# Altium footprint library Trinamics Drivers.PcbLib: 5 footprints
Each footprint in its own frame and in the unit in brackets; x right, y up, seen from the top. Pads: shape width x height; smd on the part's side, far side on the other; paste and mask are expansions set on the pad; w line width, h text height; cw(c..) or ccw(c..) is an arc to the next point about the centre after c.
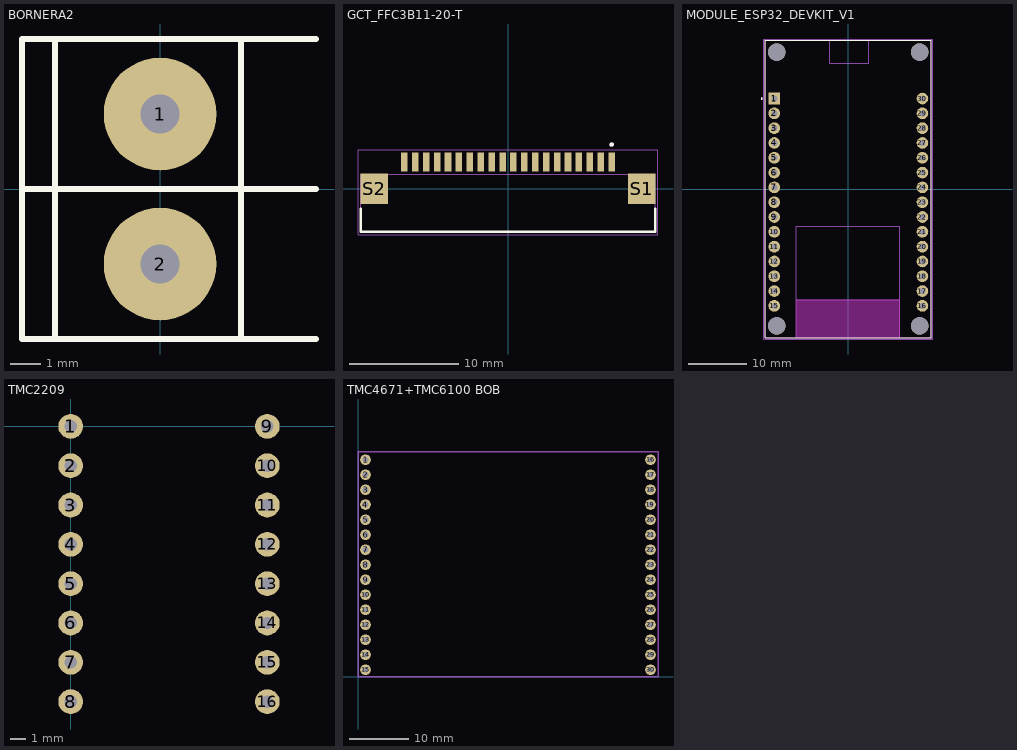
[diagram p0: the footprints below, top view; thin cyan lines are the x and y axes]

## BORNERA2 [mm] "Bornera con Tornillos 5mm separación"
pads (2):
  round 3.75 hole 1.3: 1(0,2.5) 2(0,-2.5)
Top Overlay:
  lines w0.2: -4.6,0 5.2,0 ; -3.5,-5 -3.5,5 ; 2.7,-5 2.7,5 ; 5.2,-5 -4.6,-5 -4.6,5 5.2,5
3D body "BORNERA_2.step": height 10, standoff -2.28, extent -3.763,-4.892 3.937,5.607

## GCT_FFC3B11-20-T [mm]
height 2.5
pads (22):
  rect 0.6x1.7 smd: 1(9.5,2.45) 2(8.5,2.45) 3(7.5,2.45) 4(6.5,2.45) 5(5.5,2.45) 6(4.5,2.45) 7(3.5,2.45) 8(2.5,2.45) 9(1.5,2.45) 10(0.5,2.45) 11(-0.5,2.45) 12(-1.5,2.45) 13(-2.5,2.45) 14(-3.5,2.45) 15(-4.5,2.45) 16(-5.5,2.45) 17(-6.5,2.45) 18(-7.5,2.45) 19(-8.5,2.45) 20(-9.5,2.45)
  rect 2.5x2.8 smd: S1(12.25,0) S2(-12.25,0)
Top Overlay:
  circle w0.2: c9.5,4.05 r0.1
  lines w0.2: -13.5,-1.8 -13.5,-3.95 13.5,-3.95 13.5,-1.8
Mechanical 13:
  circle w0.2: c9.5,4.05 r0.1
  lines w0.1: -13.5,-3.95 -13.5,1.35 13.5,1.35 13.5,-3.95 -13.5,-3.95
Mechanical 15:
  lines w0.05: -13.75,-4.2 13.75,-4.2 13.75,3.55 -13.75,3.55 -13.75,-4.2
3D body "step_temp.STEP": height 2.5, standoff 0, extent -13.5,-3.95 13.5,2.8

## MODULE_ESP32_DEVKIT_V1 [mm]
height 6.8
pads (34):
  rect 2x2 / inner round 2 / far side rect 2x2 hole 1.02: 1(-12.7,15.515)
  round 2 hole 1.02: 2(-12.7,12.975) 3(-12.7,10.435) 4(-12.7,7.895) 5(-12.7,5.355) 6(-12.7,2.815) 7(-12.7,0.275) 8(-12.7,-2.265) 9(-12.7,-4.805) 10(-12.7,-7.345) 11(-12.7,-9.885) 12(-12.7,-12.425) 13(-12.7,-14.965) 14(-12.7,-17.505) 15(-12.7,-20.045) 16(12.7,-20.045) 17(12.7,-17.505) 18(12.7,-14.965) 19(12.7,-12.425) 20(12.7,-9.885) 21(12.7,-7.345) 22(12.7,-4.805) 23(12.7,-2.265) 24(12.7,0.275) 25(12.7,2.815) 26(12.7,5.355) 27(12.7,7.895) 28(12.7,10.435) 29(12.7,12.975) 30(12.7,15.515)
  round 3 hole 3 unplated: ""(-12.28,-23.475) ""(-12.28,23.475) ""(12.23,-23.475) ""(12.23,23.475)
Top Overlay:
  circle w0.2: c-14.85,15.515 r0.1
  lines w0.127: -14.28,-25.475 -8.91,-25.475 8.78,-25.475 14.23,-25.475 ; -14.28,-25.475 -14.28,25.475 ; -14.28,-25.475 -14.28,25.475 ; -14.28,-25.475 14.23,-25.475 ; -14.28,25.475 -3.211,25.475 3.5,25.475 14.23,25.475 ; -14.28,25.475 14.23,25.475 ; 14.23,-25.475 14.23,25.475 ; 14.23,-25.475 14.23,25.475
Keep-Out Layer:
  region: 8.78,-25.475 -8.91,-25.475 -8.91,-18.985 8.78,-18.985
  region: 8.78,-25.475 -8.91,-25.475 -8.91,-18.985 8.78,-18.985
Mechanical 13:
  circle w0.2: c-14.85,15.515 r0.1
  lines w0.127: -8.91,-25.475 -8.91,-18.985 ; -8.91,-25.475 8.78,-25.475 ; -8.91,-25.475 -14.28,-25.475 -14.28,25.475 -3.211,25.475 ; -8.91,-18.985 8.78,-18.985 ; -8.91,-18.985 -8.91,-6.355 8.78,-6.355 8.78,-18.985 ; -3.211,25.475 -3.211,21.585 3.5,21.585 3.5,25.475 ; -3.211,25.475 3.5,25.475 ; 3.5,25.475 14.23,25.475 14.23,-25.475 8.78,-25.475 ; 8.78,-25.475 8.78,-18.985
Mechanical 15:
  lines w0.05: -14.53,-25.725 14.48,-25.725 14.48,25.725 -14.53,25.725 -14.53,-25.725
3D body "step_temp.STEP": height 7.05, standoff -6, extent -14.1,-25.9 14.1,26.55

## TMC2209 [mm]
pads (16):
  round 1.6 hole 0.8: 1(0,0) 2(0,-2.54) 3(0,-5.08) 4(0,-7.62) 5(0,-10.16) 6(0,-12.7) 7(0,-15.24) 8(0,-17.78) 9(12.7,0) 10(12.7,-2.54) 11(12.7,-5.08) 12(12.7,-7.62) 13(12.7,-10.16) 14(12.7,-12.7) 15(12.7,-15.24) 16(12.7,-17.78)
3D body "TMC2209.step": height 17.87, standoff -7.39, extent -1.27,-19.05 13.97,1.27

## TMC4671+TMC6100 BOB [mm]
pads (30):
  round 1.8 hole 1: 1(1.27,36.703) 2(1.27,34.163) 3(1.27,31.623) 4(1.267,29.12) 5(1.27,26.543) 6(1.27,24.003) 7(1.27,21.463) 8(1.27,18.923) 9(1.27,16.383) 10(1.27,13.843) 11(1.27,11.303) 12(1.27,8.763) 13(1.27,6.223) 14(1.27,3.683) 15(1.27,1.143) 16(49.53,36.703) 17(49.53,34.163) 18(49.53,31.623) 19(49.527,29.12) 20(49.53,26.543) 21(49.53,24.003) 22(49.53,21.463) 23(49.53,18.923) 24(49.53,16.383) 25(49.53,13.843) 26(49.53,11.303) 27(49.53,8.763) 28(49.53,6.223) 29(49.53,3.683) 30(49.53,1.143)
Mechanical 1:
  lines w0.254: 0,0 0,38.1 50.8,38.1 50.8,0 0,0